# Altium integrated library Inversores.IntLib: 1 symbol
Pins are listed as number, name and electrical type; pins without a type are passive.

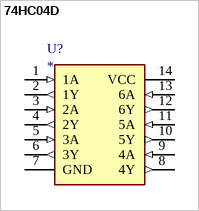
[diagram p0: symbol 74HC04D]

## 74HC04D
designator U?
ComponentLink1Description: mouser; ComponentLink1URL: https://www.mouser.es/ProductDetail/Nexperia/74HC04D653?qs=P62ublwmbi%252BLi7Vd8cc7xw%3D%3D; datasheet: https://www.mouser.es/datasheet/2/916/74HC_HCT04-1319775.pdf
footprint SOIC127P600X175-8N
pins: 1 1A (in), 2 1Y (out), 3 2A (in), 4 2Y (out), 5 3A (in), 6 3Y (out), 7 GND (power), 8 4Y (out), 9 4A (in), 10 5Y (out), 11 5A (in), 12 6Y (out), 13 6A (in), 14 VCC (power)